# Altium schematic symbol library SCH - MCU - NUVOTON - NUVOTON M031GGC1AE.SchLib: 1 symbol
Pins are listed as number, name and electrical type; pins without a type are passive.

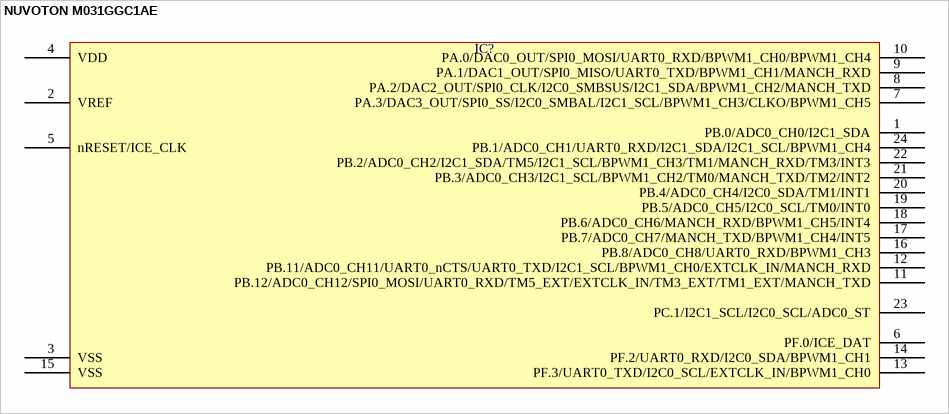
[diagram p0: symbol NUVOTON M031GGC1AE]

## NUVOTON M031GGC1AE
designator IC?  (value not drawn)
pins: 1 PB.0/ADC0_CH0/I2C1_SDA, 2 VREF, 3 VSS, 4 VDD, 5 nRESET/ICE_CLK, 6 PF.0/ICE_DAT, 7 PA.3/DAC3_OUT/SPI0_SS/I2C0_SMBAL/I2C1_SCL/BPWM1_CH3/CLKO/BPWM1_CH5, 8 PA.2/DAC2_OUT/SPI0_CLK/I2C0_SMBSUS/I2C1_SDA/BPWM1_CH2/MANCH_TXD, 9 PA.1/DAC1_OUT/SPI0_MISO/UART0_TXD/BPWM1_CH1/MANCH_RXD, 10 PA.0/DAC0_OUT/SPI0_MOSI/UART0_RXD/BPWM1_CH0/BPWM1_CH4, 11 PB.12/ADC0_CH12/SPI0_MOSI/UART0_RXD/TM5_EXT/EXTCLK_IN/TM3_EXT/TM1_EXT/MANCH_TXD, 12 PB.11/ADC0_CH11/UART0_nCTS/UART0_TXD/I2C1_SCL/BPWM1_CH0/EXTCLK_IN/MANCH_RXD, 13 PF.3/UART0_TXD/I2C0_SCL/EXTCLK_IN/BPWM1_CH0, 14 PF.2/UART0_RXD/I2C0_SDA/BPWM1_CH1, 15 VSS, 16 PB.8/ADC0_CH8/UART0_RXD/BPWM1_CH3, 17 PB.7/ADC0_CH7/MANCH_TXD/BPWM1_CH4/INT5, 18 PB.6/ADC0_CH6/MANCH_RXD/BPWM1_CH5/INT4, 19 PB.5/ADC0_CH5/I2C0_SCL/TM0/INT0, 20 PB.4/ADC0_CH4/I2C0_SDA/TM1/INT1, 21 PB.3/ADC0_CH3/I2C1_SCL/BPWM1_CH2/TM0/MANCH_TXD/TM2/INT2, 22 PB.2/ADC0_CH2/I2C1_SDA/TM5/I2C1_SCL/BPWM1_CH3/TM1/MANCH_RXD/TM3/INT3, 23 PC.1/I2C1_SCL/I2C0_SCL/ADC0_ST, 24 PB.1/ADC0_CH1/UART0_RXD/I2C1_SDA/I2C1_SCL/BPWM1_CH4